# Altium footprint library MODULE_RASPBERRY_PI_ZERO_2_W.PcbLib: 1 footprints
Each footprint in its own frame and in the unit in brackets; x right, y up, seen from the top. Pads: shape width x height; smd on the part's side, far side on the other; paste and mask are expansions set on the pad; w line width, h text height; cw(c..) or ccw(c..) is an arc to the next point about the centre after c.
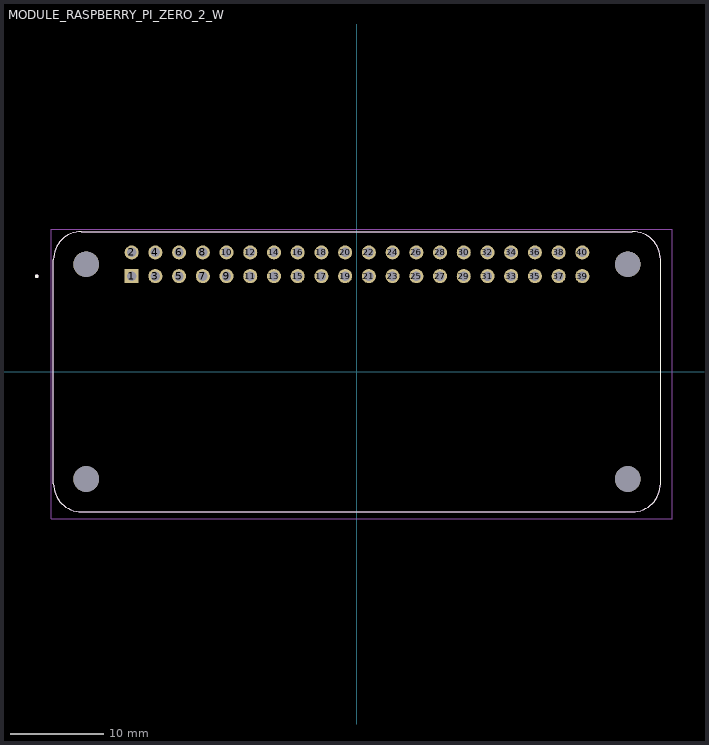
[diagram p0: the footprint, top view; thin cyan lines are the x and y axes]

## MODULE_RASPBERRY_PI_ZERO_2_W [mm]
pads (44):
  rect 1.508x1.508 / inner round 1.508 / far side rect 1.508x1.508 hole 1: 1(-24.13,10.23)
  round 1.508 hole 1: 2(-24.13,12.77) 3(-21.59,10.23) 4(-21.59,12.77) 5(-19.05,10.23) 6(-19.05,12.77) 7(-16.51,10.23) 8(-16.51,12.77) 9(-13.97,10.23) 10(-13.97,12.77) 11(-11.43,10.23) 12(-11.43,12.77) 13(-8.89,10.23) 14(-8.89,12.77) 15(-6.35,10.23) 16(-6.35,12.77) 17(-3.81,10.23) 18(-3.81,12.77) 19(-1.27,10.23) 20(-1.27,12.77) 21(1.27,10.23) 22(1.27,12.77) 23(3.81,10.23) 24(3.81,12.77) 25(6.35,10.23) 26(6.35,12.77) 27(8.89,10.23) 28(8.89,12.77) 29(11.43,10.23) 30(11.43,12.77) 31(13.97,10.23) 32(13.97,12.77) 33(16.51,10.23) 34(16.51,12.77) 35(19.05,10.23) 36(19.05,12.77) 37(21.59,10.23) 38(21.59,12.77) 39(24.13,10.23) 40(24.13,12.77)
  round 2.75 hole 2.75 unplated: ""(-29,-11.5) ""(-29,11.5) ""(29,-11.5) ""(29,11.5)
Top Overlay:
  circle w0.2: c-34.29,10.23 r0.1
  lines w0.127: 4.4,-15 12.75,-15 ; 17,-15 25.35,-15 ; -32.5,-12 ccw(c-29.5,-12) -29.5,-15 29.5,-15 ccw(c29.5,-12) 32.5,-12 32.5,12 ccw(c29.5,12) 29.5,15 -29.5,15 ccw(c-29.5,12) -32.5,12 -32.5,-12
Assembly Top:
  circle w0.2: c-34.29,10.23 r0.1
  lines w0.127: 4.4,-15 12.75,-15 ; 17,-15 25.35,-15 ; -32.5,-12 ccw(c-29.5,-12) -29.5,-15 29.5,-15 ccw(c29.5,-12) 32.5,-12 32.5,12 ccw(c29.5,12) 29.5,15 -29.5,15 ccw(c-29.5,12) -32.5,12 -32.5,-12
Courtyard Top:
  lines w0.05: -32.75,-15.75 33.75,-15.75 33.75,15.25 -32.75,15.25 -32.75,-15.75
3D body "step_temp.STEP": height 5.62, standoff 0.01, extent -32.5,-16 33.5,15